# Altium schematic symbol library SamacSys.SchLib: 3 symbols
Pins are listed as number, name and electrical type; pins without a type are passive.

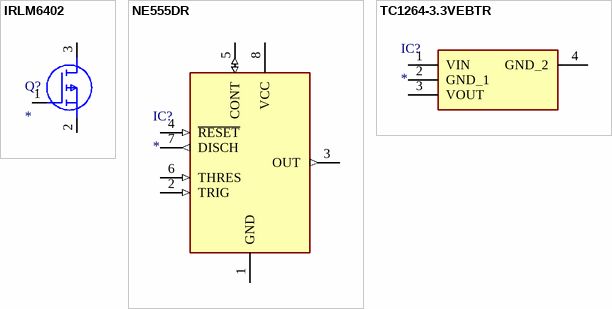
[diagram p0: symbols IRLM6402 to TC1264-3.3VEBTR]

## IRLM6402
designator Q?
MOSFET (P-Channel); Manufacturer_Name: Infineon; Manufacturer_Part_Number: IRLM6402; Description: HEXFET Power MOSFET; Datasheet Link: https://www.kynix.com/Detail/613549/IRLM6402.html; Height: 1.12mm
footprint SOT95P237X112-3N
pins: 1 G, 2 S, 3 D

## NE555DR
designator IC?
Integrated Circuit; Manufacturer_Name: Texas Instruments; Manufacturer_Part_Number: NE555DR; Datasheet Link: http://www.ti.com/lit/ds/symlink/ne555.pdf; Height: 1.75mm; Mouser Part Number: 595-NE555DR; Mouser Price/Stock: https://www.mouser.com/Search/Refine.aspx?Keyword=595-NE555DR; RS Part Number: 1218414; RS Price/Stock: http://uk.rs-online.com/web/p/products/1218414
footprint SOIC127P600X175-8N
pins: 1 GND (power), 2 TRIG (in), 3 OUT (out), 4 ~{RESET} (in), 5 CONT (io), 6 THRES (in), 7 DISCH (out), 8 VCC (power)

## TC1264-3.3VEBTR
designator IC?
Integrated Circuit; Manufacturer_Name: Microchip; Manufacturer_Part_Number: TC1264-3.3VEBTR; Description: LDO Voltage Regulators 800mA Fixed Output; Datasheet Link: http://ww1.microchip.com/downloads/en/devicedoc/21375d.pdf; Height: 4.572mm; Mouser Part Number: 579-TC1264-3.3VEBTR; Mouser Price/Stock: https://www.mouser.com/Search/Refine.aspx?Keyword=579-TC1264-3.3VEBTR
footprint TC126433VEBTR
pins: 1 VIN, 2 GND_1, 3 VOUT, 4 GND_2